# Altium footprint library FYLS-0805GC.PcbLib: 1 footprints
Each footprint in its own frame and in the unit in brackets; x right, y up, seen from the top. Pads: shape width x height; smd on the part's side, far side on the other; paste and mask are expansions set on the pad; w line width, h text height; cw(c..) or ccw(c..) is an arc to the next point about the centre after c.
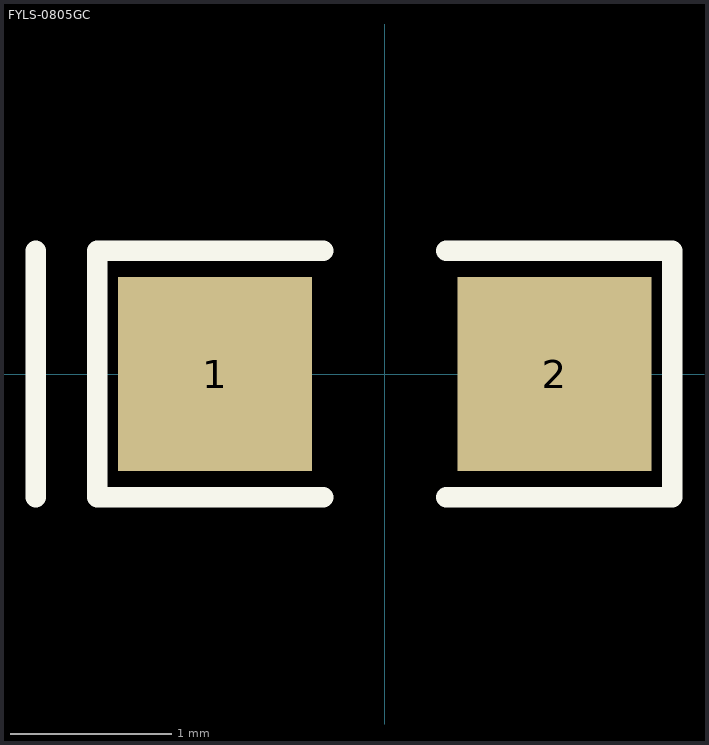
[diagram p0: the footprint, top view; thin cyan lines are the x and y axes]

## FYLS-0805GC [mm]
pads (2):
  rect 1.2x1.2 smd: 1(-1.05,0) 2(1.05,0)
Top Overlay:
  lines w0.127: -2.159,-0.762 -2.159,0.762 ; -0.381,-0.762 -1.778,-0.762 -1.778,0.762 -0.381,0.762 ; 0.381,-0.762 1.778,-0.762 1.778,0.762 0.381,0.762
3D body "FYLS-0805UBC.stp": height 1, standoff 0, extent -1,-0.625 1,0.625